# Altium schematic symbol library RES NTC 10k.SchLib: 1 symbol
Pins are listed as number, name and electrical type; pins without a type are passive.

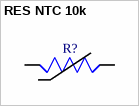
[diagram p0: symbol RES NTC 10k]

## RES NTC 10k
designator R?  (value not drawn)  (no BOM)
footprint THERMISTOR TH
pins: 1, 2